# Altium footprint library 733910070.PcbLib: 1 footprints
Each footprint in its own frame and in the unit in brackets; x right, y up, seen from the top. Pads: shape width x height; smd on the part's side, far side on the other; paste and mask are expansions set on the pad; w line width, h text height; cw(c..) or ccw(c..) is an arc to the next point about the centre after c.
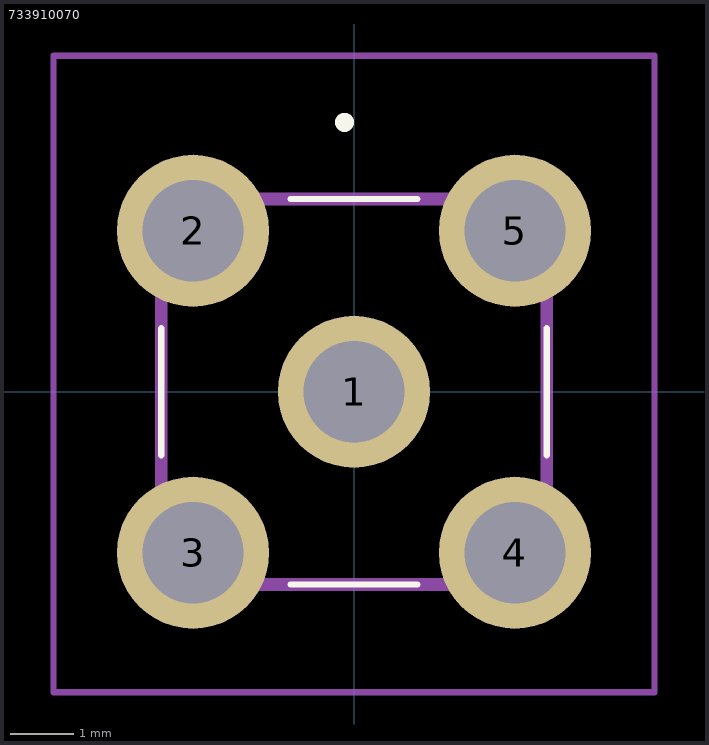
[diagram p0: the footprint, top view; thin cyan lines are the x and y axes]

## 733910070 [mm]
pads (5):
  round 2.4 hole 1.6: 1(0,0) 2(-2.54,2.54) 3(-2.54,-2.54) 4(2.54,-2.54) 5(2.54,2.54)
Top Overlay:
  lines w0.1: -3.04,-1 -3.04,-1 ; -3.04,-1 -3.04,1 ; -3.04,-1 -3.04,1 ; -3.04,1 -3.04,1 ; -1,-3.04 1,-3.04 ; -1,-3.04 1,-3.04 ; -1,-3.04 -1,-3.04 ; -1,3.04 1,3.04 ; -1,3.04 1,3.04 ; -1,3.04 -1,3.04 ; 1,-3.04 1,-3.04 ; 1,3.04 1,3.04 ; 3.04,-1 3.04,1 ; 3.04,-1 3.04,-1 ; 3.04,-1 3.04,1 ; 3.04,1 3.04,1
  lines w0.2: -0.2,4.25 -0.2,4.25 ; -0.2,4.25 ccw(c-0.15,4.25) -0.1,4.25 ; -0.2,4.25 cw(c-0.15,4.25) -0.1,4.25 ; -0.2,4.25 -0.2,4.25 ; -0.2,4.25 ccw(c-0.15,4.25) -0.1,4.25 ; -0.1,4.25 -0.1,4.25
Mechanical 15:
  lines w0.2: -3.04,-3.04 3.04,-3.04 3.04,3.04 -3.04,3.04 -3.04,-3.04
Mechanical 20:
  lines w0.1: -4.74,-4.74 4.74,-4.74 4.74,5.3 -4.74,5.3 -4.74,-4.74